# EAGLE library part WA06X103JTL (library custom_parts)
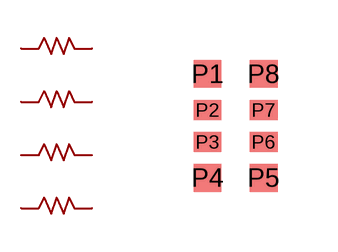
[diagram p8: symbol with the pads of 0603X4; footprint 0603X4]

Designator prefix -; gates G$1=RESISTOR G$2=RESISTOR G$3=RESISTOR G$4=RESISTOR

## WA06X103JTL  [0603X4]
P1  G$1:R1
P2  G$2:R1
P3  G$3:R1
P4  G$4:R1
P5  G$4:R2
P6  G$3:R2
P7  G$2:R2
P8  G$1:R2

## Footprint 0603X4 (pad centres in mm)
datasheet at http://www.passivecomponent.com/lh3/WA06X_J.pdf
smd 0.7 x 0.7: P1 -0.7,1.3; P4 -0.7,-1.3; P5 0.7,-1.3; P8 0.7,1.3
smd 0.7 x 0.5: P2 -0.7,0.4; P3 -0.7,-0.4; P6 0.7,-0.4; P7 0.7,0.4